# Altium footprint library Flex_SON8_3.3x3.3_DQG8.PcbLib: 1 footprints
Each footprint in its own frame and in the unit in brackets; x right, y up, seen from the top. Pads: shape width x height; smd on the part's side, far side on the other; paste and mask are expansions set on the pad; w line width, h text height; cw(c..) or ccw(c..) is an arc to the next point about the centre after c.
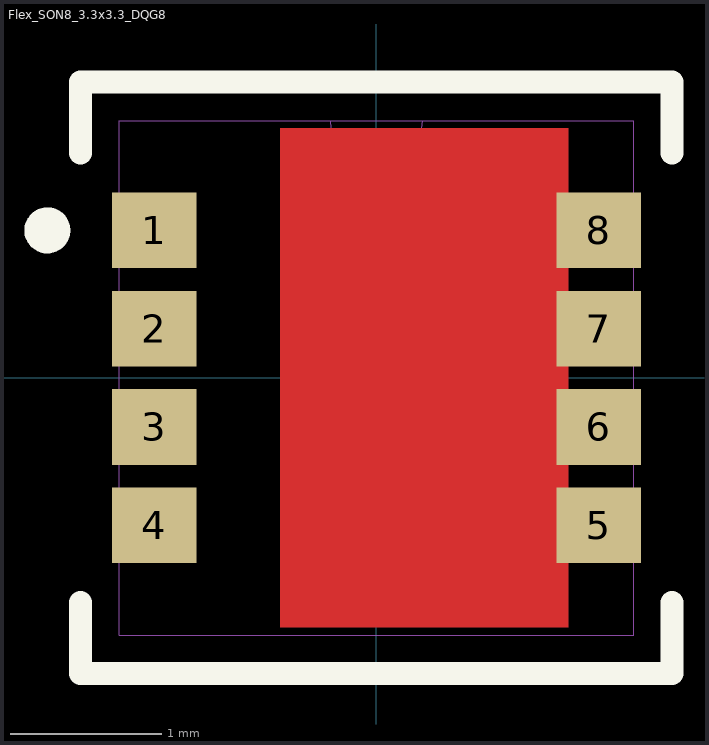
[diagram p0: the footprint, top view; thin cyan lines are the x and y axes]

## Flex_SON8_3.3x3.3_DQG8 [mm]
pads (8):
  rect 0.56x0.5 smd paste-0.25 mask-999: 1(-1.47,0.975) 2(-1.47,0.325) 3(-1.47,-0.325) 4(-1.47,-0.975) 5(1.47,-0.975) 6(1.47,-0.325) 7(1.47,0.325) 8(1.47,0.975)
Top Layer:
  region: -0.635,1.651 1.27,1.651 1.27,-1.651 -0.635,-1.651
Top Overlay:
  circle w0.152: c-2.177,0.975 r0.076
  lines w0.152: -1.956,-1.486 -1.956,-1.956 1.956,-1.956 1.956,-1.486 ; -1.956,1.486 -1.956,1.956 1.956,1.956 1.956,1.486
Top Paste:
  region: -1.215,1.2 -1.725,1.2 -1.725,0.75 -1.215,0.75
  region: -1.215,0.55 -1.725,0.55 -1.725,0.1 -1.215,0.1
  region: -1.215,-0.1 -1.725,-0.1 -1.725,-0.55 -1.215,-0.55
  region: -1.215,-0.75 -1.725,-0.75 -1.725,-1.2 -1.215,-1.2
  region: 1.725,-0.75 1.215,-0.75 1.215,-1.2 1.725,-1.2
  region: 1.725,-0.1 1.215,-0.1 1.215,-0.55 1.725,-0.55
  region: 1.725,0.55 1.215,0.55 1.215,0.1 1.725,0.1
  region: 1.725,1.2 1.215,1.2 1.215,0.75 1.725,0.75
  region: 0.381,-1.524 0.381,-1.143 0.381,-0.635 1.143,-0.635 1.143,-1.524
  region: -0.508,-0.508 -0.508,0 -0.508,0.508 0.254,0.508 0.254,-0.508
  region: 0.381,-0.508 0.381,0.508 1.143,0.508 1.143,-0.508
  region: -0.508,-1.524 -0.508,-1.143 -0.508,-0.635 0.254,-0.635 0.254,-1.524
  region: -0.508,0.635 -0.508,1.397 -0.508,1.524 0.254,1.524 0.254,0.635
  region: 0.381,0.635 0.381,1.524 1.143,1.524 1.143,0.635
Top Solder:
  region: -1.4,-1.708 -1.556,-1.677 -1.688,-1.588 -1.777,-1.456 -1.808,-1.3 -1.8,-1.3 -1.808,1.3 -1.777,1.456 -1.688,1.588 -1.556,1.677 -1.4,1.708 -1.4,1.7 1.4,1.708 1.556,1.677 1.688,1.588 1.777,1.456 1.808,1.3 1.8,1.3 1.808,-1.3 1.777,-1.456 1.688,-1.588 1.556,-1.677 1.4,-1.708 1.4,-1.7
Mechanical 1:
  circle w0: c-2.177,0.975 r0.076
  lines w0: -0.305,1.702 ccw(c0,1.702) 0.305,1.702 ; -1.702,-1.702 1.702,-1.702 1.702,1.702 -1.702,1.702 -1.702,-1.702
3D body: height 1, standoff 0, extent -1.7,-1.7 1.7,1.7